# EAGLE library part M22-5320305_6PM_2MM_SMD (library CYCFI_Con)
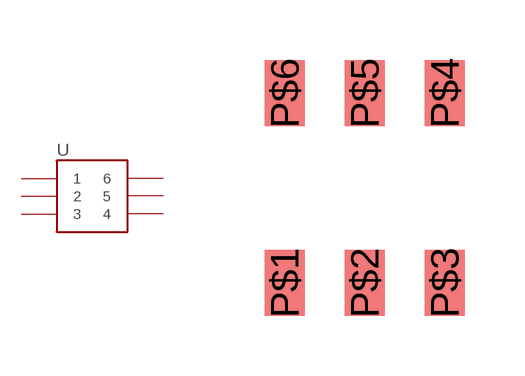
[diagram p27: symbol with the pads of 6P_2X3_2MM_MALE_SMD; footprint 6P_2X3_2MM_MALE_SMD]

Designator prefix -

## M22-5320305_6PM_2MM_SMD  [6P_2X3_2MM_MALE_SMD]
P$1  1
P$2  2
P$3  3
P$4  4
P$5  5
P$6  6

## Footprint 6P_2X3_2MM_MALE_SMD (pad centres in mm)
smd 1 x 1.65: P$1 -2,-2.375; P$2 0,-2.375; P$3 2,-2.375; P$4 2,2.375; P$5 0,2.375; P$6 -2,2.375